# Altium footprint library 2019-09-29_07-04-21.PcbLib: 3 footprints
Each footprint in its own frame and in the unit in brackets; x right, y up, seen from the top. Pads: shape width x height; smd on the part's side, far side on the other; paste and mask are expansions set on the pad; w line width, h text height; cw(c..) or ccw(c..) is an arc to the next point about the centre after c.
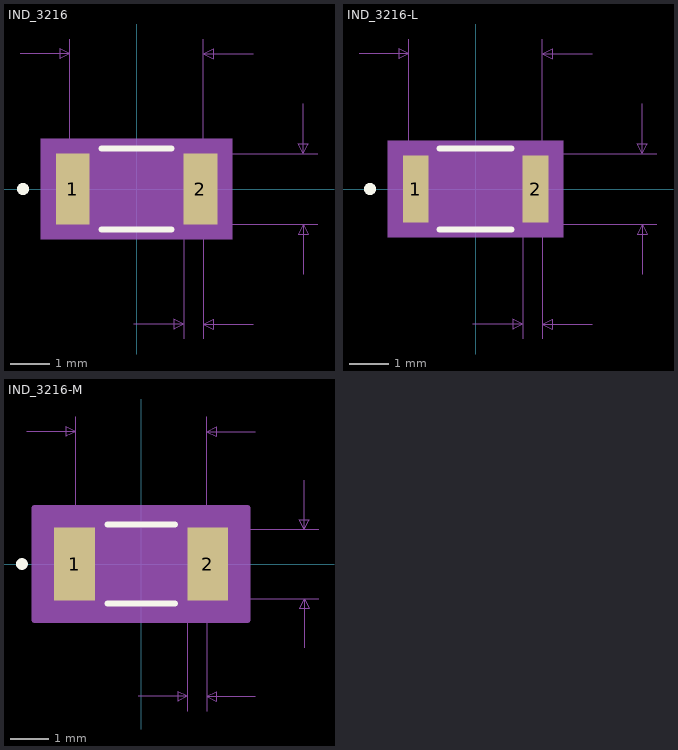
[diagram p0: the footprints below, top view; thin cyan lines are the x and y axes]

## IND_3216 [mm]
pads (2):
  rect 0.856x1.8 smd paste+0 mask+0: 1(-1.628,0) 2(1.628,0)
Top Overlay:
  circle w0.152: c-2.894,0 r0.076
  lines w0.152: -0.892,-1.027 0.892,-1.027 ; -0.892,1.027 0.892,1.027
Mechanical 5:
  region: 2.437,-1.281 -2.437,-1.281 -2.437,1.281 2.437,1.281
Mechanical 7:
  lines w0.025: -2.97,3.44 -1.7,3.44 ; -1.7,0 -1.7,3.821 ; -0.07,-3.44 1.2,-3.44 ; 0,-0.9 4.621,-0.9 ; 0,0.9 4.621,0.9 ; 1.2,-3.821 1.2,0 ; 1.7,-3.821 1.7,0 1.7,3.821 ; 2.97,-3.44 1.7,-3.44 ; 2.97,3.44 1.7,3.44 ; 4.24,-2.17 4.24,-0.9 ; 4.24,2.17 4.24,0.9 ; -1.7,3.44 -1.954,3.567 -1.954,3.313 -1.7,3.44 ; 1.2,-3.44 0.946,-3.313 0.946,-3.567 1.2,-3.44 ; 1.7,-3.44 1.954,-3.313 1.954,-3.567 1.7,-3.44 ; 1.7,3.44 1.954,3.567 1.954,3.313 1.7,3.44 ; 4.24,-0.9 4.113,-1.154 4.367,-1.154 4.24,-0.9 ; 4.24,0.9 4.113,1.154 4.367,1.154 4.24,0.9
  text "Default Padstyle: RX33p69Y70p87D0T" at -10.795,-7.758 h1.27
  text "Alt 1 Padstyle: OX60Y90D30P" at -8.572,-9.282 h1.27
  text "Alt 2 Padstyle: OX90Y60D30P" at -8.572,-10.806 h1.27
  text "0.071in/1.8mm" at 4.748,-0.318 h0.64
  text "0.134in/3.4mm" at -2.064,3.948 h0.64
  text "0.02in/0.5mm" at -0.455,-4.583 h0.64
Mechanical 13:
  circle w0: c-1.501,0 r0.076
  lines w0.025: -1.7,-0.9 -1.7,0.9 ; -1.7,-0.9 -1.2,-0.9 -1.2,0.9 -1.7,0.9 ; -1.7,-0.9 1.7,-0.9 ; -1.7,-0.9 -1.7,0.9 ; -1.7,0.9 1.7,0.9 ; 1.7,-0.9 1.2,-0.9 1.2,0.9 1.7,0.9 ; 1.7,-0.9 1.7,0.9 ; 1.7,-0.9 1.7,0.9
Mechanical 15:
  region: 2.31,-1.154 -2.31,-1.154 -2.31,1.154 2.31,1.154
  lines w0.152: -2.31,-1.154 -2.31,1.154 2.31,1.154 2.31,-1.154 -2.31,-1.154
3D body: height 0.25, standoff 0, extent 0,0 0.254,0.254

## IND_3216-L [mm]
pads (2):
  rect 0.652x1.698 smd paste+0 mask+0: 1(-1.526,0) 2(1.526,0)
Top Overlay:
  circle w0.152: c-2.691,0 r0.076
  lines w0.152: -0.919,-1.027 0.919,-1.027 ; -0.919,1.027 0.919,1.027
Mechanical 5:
  region: 2.233,-1.23 -2.233,-1.23 -2.233,1.23 2.233,1.23
Mechanical 7:
  lines w0.025: -2.97,3.44 -1.7,3.44 ; -1.7,0 -1.7,3.821 ; -0.07,-3.44 1.2,-3.44 ; 0,-0.9 4.621,-0.9 ; 0,0.9 4.621,0.9 ; 1.2,-3.821 1.2,0 ; 1.7,-3.821 1.7,0 1.7,3.821 ; 2.97,-3.44 1.7,-3.44 ; 2.97,3.44 1.7,3.44 ; 4.24,-2.17 4.24,-0.9 ; 4.24,2.17 4.24,0.9 ; -1.7,3.44 -1.954,3.567 -1.954,3.313 -1.7,3.44 ; 1.2,-3.44 0.946,-3.313 0.946,-3.567 1.2,-3.44 ; 1.7,-3.44 1.954,-3.313 1.954,-3.567 1.7,-3.44 ; 1.7,3.44 1.954,3.567 1.954,3.313 1.7,3.44 ; 4.24,-0.9 4.113,-1.154 4.367,-1.154 4.24,-0.9 ; 4.24,0.9 4.113,1.154 4.367,1.154 4.24,0.9
  text "Default Padstyle: RX25p69Y66p87D0T" at -10.795,-7.707 h1.27
  text "Alt 1 Padstyle: OX60Y90D30P" at -8.572,-9.231 h1.27
  text "Alt 2 Padstyle: OX90Y60D30P" at -8.572,-10.755 h1.27
  text "0.071in/1.8mm" at 4.748,-0.318 h0.64
  text "0.134in/3.4mm" at -2.064,3.948 h0.64
  text "0.02in/0.5mm" at -0.455,-4.583 h0.64
Mechanical 13:
  circle w0: c-1.399,0 r0.076
  lines w0.025: -1.7,-0.9 -1.7,0.9 ; -1.7,-0.9 -1.2,-0.9 -1.2,0.9 -1.7,0.9 ; -1.7,-0.9 1.7,-0.9 ; -1.7,-0.9 -1.7,0.9 ; -1.7,0.9 1.7,0.9 ; 1.7,-0.9 1.2,-0.9 1.2,0.9 1.7,0.9 ; 1.7,-0.9 1.7,0.9 ; 1.7,-0.9 1.7,0.9
Mechanical 15:
  region: 1.954,-0.951 -1.954,-0.951 -1.954,0.951 1.954,0.951
  lines w0.152: -1.954,-0.951 -1.954,0.951 1.954,0.951 1.954,-0.951 -1.954,-0.951
3D body: height 0.25, standoff 0, extent 0,0 0.254,0.254

## IND_3216-M [mm]
pads (2):
  rect 1.059x1.902 smd paste+0 mask+0: 1(-1.729,0) 2(1.729,0)
Top Overlay:
  circle w0.152: c-3.097,0 r0.076
  lines w0.152: -0.876,-1.027 0.876,-1.027 ; -0.876,1.027 0.876,1.027
Mechanical 5:
  region: 2.64,-1.332 -2.64,-1.332 -2.64,1.332 2.64,1.332
Mechanical 7:
  lines w0.025: -2.97,3.44 -1.7,3.44 ; -1.7,0 -1.7,3.821 ; -0.07,-3.44 1.2,-3.44 ; 0,-0.9 4.621,-0.9 ; 0,0.9 4.621,0.9 ; 1.2,-3.821 1.2,0 ; 1.7,-3.821 1.7,0 1.7,3.821 ; 2.97,-3.44 1.7,-3.44 ; 2.97,3.44 1.7,3.44 ; 4.24,-2.17 4.24,-0.9 ; 4.24,2.17 4.24,0.9 ; -1.7,3.44 -1.954,3.567 -1.954,3.313 -1.7,3.44 ; 1.2,-3.44 0.946,-3.313 0.946,-3.567 1.2,-3.44 ; 1.7,-3.44 1.954,-3.313 1.954,-3.567 1.7,-3.44 ; 1.7,3.44 1.954,3.567 1.954,3.313 1.7,3.44 ; 4.24,-0.9 4.113,-1.154 4.367,-1.154 4.24,-0.9 ; 4.24,0.9 4.113,1.154 4.367,1.154 4.24,0.9
  text "Default Padstyle: RX41p69Y74p87D0T" at -10.795,-7.809 h1.27
  text "Alt 1 Padstyle: OX60Y90D30P" at -8.572,-9.333 h1.27
  text "Alt 2 Padstyle: OX90Y60D30P" at -8.572,-10.857 h1.27
  text "0.071in/1.8mm" at 4.748,-0.318 h0.64
  text "0.134in/3.4mm" at -2.064,3.948 h0.64
  text "0.02in/0.5mm" at -0.455,-4.583 h0.64
Mechanical 13:
  circle w0: c-1.602,0 r0.076
  lines w0.025: -1.7,-0.9 -1.7,0.9 ; -1.7,-0.9 -1.2,-0.9 -1.2,0.9 -1.7,0.9 ; -1.7,-0.9 1.7,-0.9 ; -1.7,-0.9 -1.7,0.9 ; -1.7,0.9 1.7,0.9 ; 1.7,-0.9 1.2,-0.9 1.2,0.9 1.7,0.9 ; 1.7,-0.9 1.7,0.9 ; 1.7,-0.9 1.7,0.9
Mechanical 15:
  region: 2.767,-1.459 -2.767,-1.459 -2.767,1.459 2.767,1.459
  lines w0.152: -2.767,-1.459 -2.767,1.459 2.767,1.459 2.767,-1.459 -2.767,-1.459
3D body: height 0.25, standoff 0, extent 0,0 0.254,0.254